# EAGLE library part MKS1863-6-0-1313 (library con-stocko)
Serie MKS 1850 Lötstifte In-line, Raster 2.5 mm, Stiftwannen, stehend, mit Rastlasche Source: http://www.stocko.de/de/index.php?seite=ka_rfk2_mks1850.html&rubrik=Katalog+-+RFK+2 rfk_1850.pdf
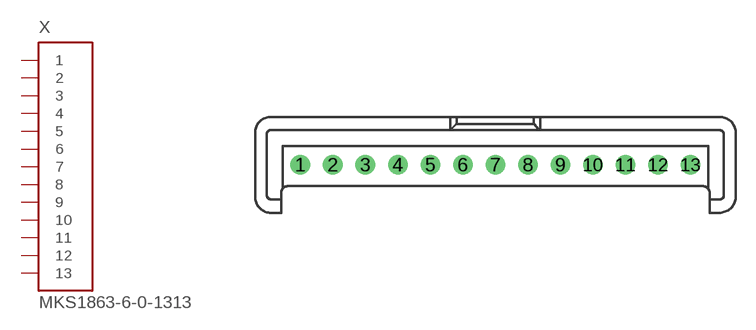
[diagram p7: symbol with the pads of MKS1863-6-0-1313; footprint MKS1863-6-0-1313]

Designator prefix X

## MKS1863-6-0-1313  [MKS1863-6-0-1313]
1  1  in
2  2  in
3  3  in
4  4  in
5  5  in
6  6  in
7  7  in
8  8  in
9  9  in
10  10  in
11  11  in
12  12  in
13  13  in

## Footprint MKS1863-6-0-1313 (pad centres in mm)
Serie MKS 1850 Lötstifte In-line, Raster 2.5 mm, Stiftwannen, stehend, mit Rastlasche Source: http://www.stocko.de/de/index.php?seite=ka_rfk2_mks1850.html&rubrik=Katalog+-+RFK+2 rfk_1850.pdf
drill 1 pad 1.422 round: 1 -15,0; 2 -12.5,0; 3 -10,0; 4 -7.5,0; 5 -5,0; 6 -2.5,0; 7 0,0; 8 2.5,0; 9 5,0; 10 7.5,0; 11 10,0; 12 12.5,0; 13 15,0